# EAGLE library part NHD-0420D3Z-FL-GBW-V3 (library NHD-0420D3Z-FL-GBW-V3)
LCD Character Display Modules & Accessories 4 x 20 STN-GRAY 98.0 x 60.0 Source: Datasheet <https://componentsearchengine.com/Datasheets/1/NHD-0420D3Z-FL-GBW-V3.pdf>
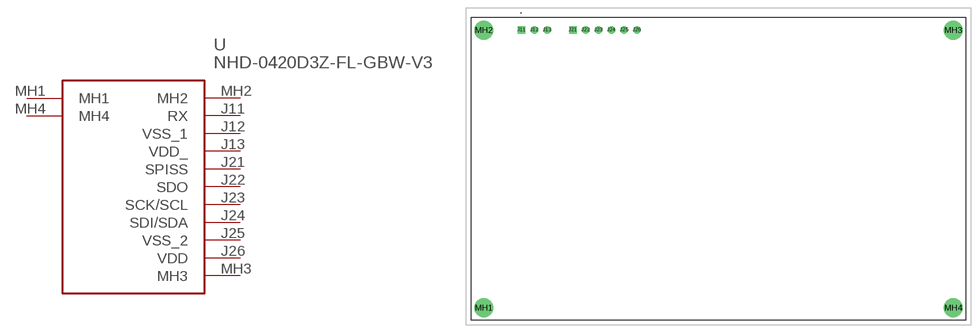
[diagram p0: symbol with the pads of NHD0420D3ZFLGBWV3; footprint NHD0420D3ZFLGBWV3]

Designator prefix U

## NHD-0420D3Z-FL-GBW-V3 (Description: LCD Character Display Modules & Accessories 4 x 20 STN-GRAY 98.0 x 60.0; Height: 9.34mm; Manufacturer_Name: Newhaven Display; Manufacturer_Part_Number: NHD-0420D3Z-FL-GBW-V3; Mouser_Part_Number: 763-0420D3ZFLGBW-V3; Mouser_Price-Stock: https://www.mouser.co.uk/ProductDetail/Newhaven-Display/NHD-0420D3Z-FL-GBW-V3?qs=qFF%252BBcFBHba4i0K1fcOqkw%3D%3D)  [NHD0420D3ZFLGBWV3]
J11  RX
J12  VSS_1
J13  VDD_
J21  SPISS
J22  SDO
J23  SCK/SCL
J24  SDI/SDA
J25  VSS_2
J26  VDD
MH1  MH1
MH2  MH2
MH3  MH3
MH4  MH4

## Footprint NHD0420D3ZFLGBWV3 (pad centres in mm)
NHD-0420D3Z-FL-GBW-V3-2
drill 1 pad 1.5 square: J11 0,0; J21 10.16,0
drill 1 pad 1.5: J12 2.54,0; J13 5.08,0; J22 12.7,0; J23 15.24,0; J24 17.78,0; J25 20.32,0; J26 22.86,0
drill 2.5 pad 3.75: MH1 -7.5,-55; MH2 -7.5,0; MH3 85.5,0; MH4 85.5,-55